# Altium footprint library J104D2C5VDC.20S.PcbLib: 1 footprints
Each footprint in its own frame and in the unit in brackets; x right, y up, seen from the top. Pads: shape width x height; smd on the part's side, far side on the other; paste and mask are expansions set on the pad; w line width, h text height; cw(c..) or ccw(c..) is an arc to the next point about the centre after c.
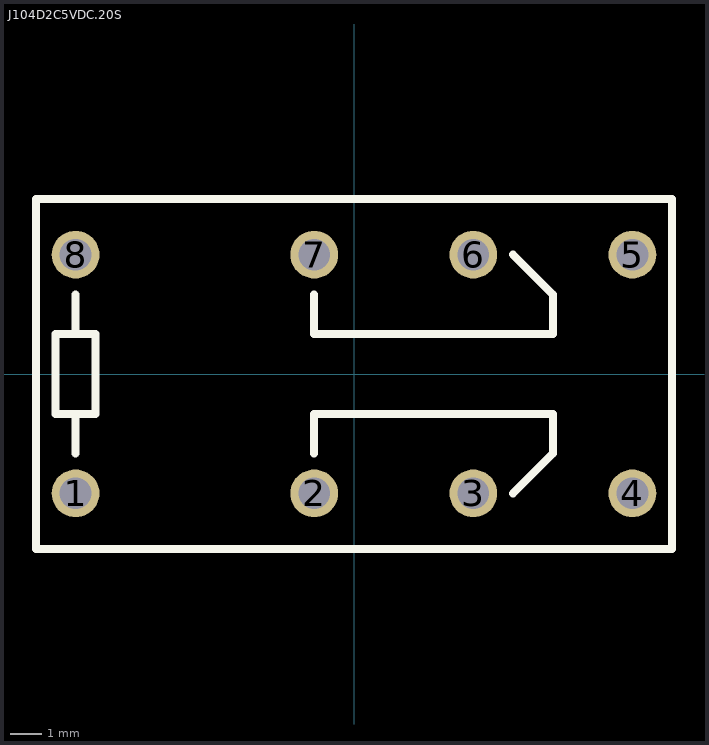
[diagram p0: the footprint, top view; thin cyan lines are the x and y axes]

## J104D2C5VDC.20S [mil]
pads (8):
  round 60 hole 40: 1(-350,-150) 2(-50,-150) 3(150,-150) 4(350,-150) 5(350,150) 6(150,150) 7(-50,150) 8(-350,150)
Top Overlay:
  lines w10: -350,-100 -350,-50 ; -350,50 -350,100 ; -50,-100 -50,-50 250,-50 250,-100 200,-150 ; -50,100 -50,50 250,50 250,100 200,150 ; -400,-220 400,-220 400,220 -400,220 -400,-220 ; -375,-50 -375,50 -325,50 -325,-50 -375,-50